# Altium integrated library Capacitor - Aluminium TH.IntLib: 4591 symbols (part 57 of 68)
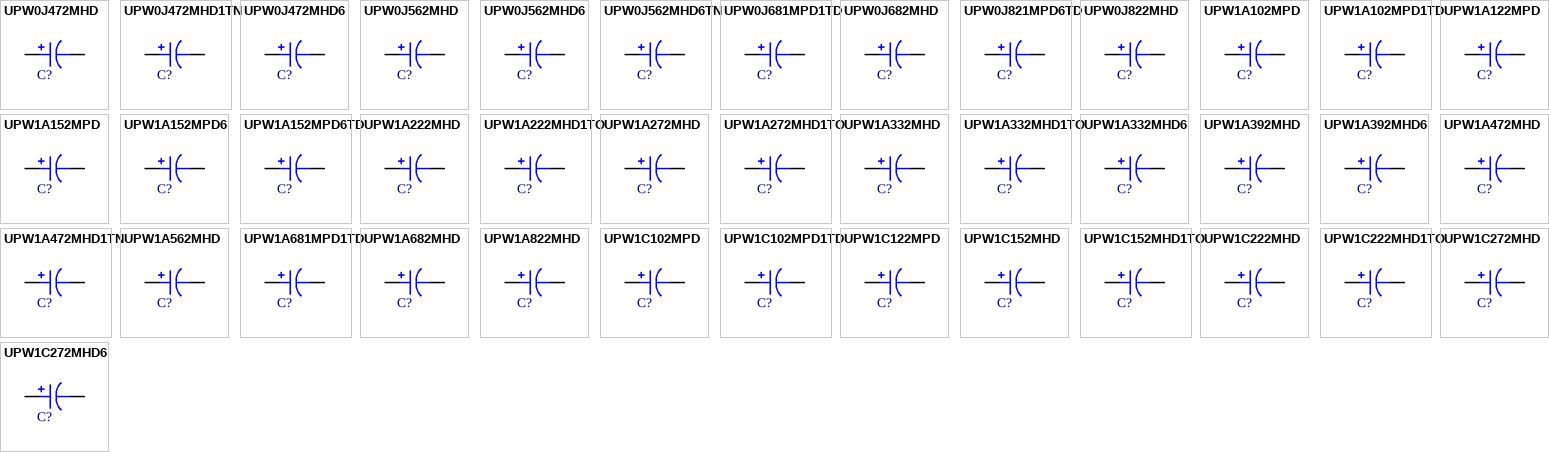
[diagram p170: symbols UPW0J472MHD to UPW1C272MHD6]

## UPW1A272MHD
designator C?, comment 2700uF  (value not drawn)
CAP ALUM 2700UF 20% 10V RADIAL; Part Number: UPW1A272MHD; Manufacturer: Nichicon; TemperatureRange: -55C ~ 105C; Type: Polar; Ripple Current: 1.653A @ 120Hz; Impedance: 30 mOhm; Value: 2700uF; PartId: 23565; Supplier 1: Digi-Key; Supplier Part Number 1: 493-1753-ND; ComponentLink1Description: Datasheet; ComponentLink1URL: http://nichicon-us.com/english/products/pdfs/e-upw.pdf; ComponentLink2Description: Digi-Key Listing; ComponentLink2URL: https://www.digikey.com/product-detail/en/nichicon/UPW1A272MHD/493-1753-ND/589494; Tolerance: 20%; Voltage: 10V; Price: 0.92; Device Package: Radial, Can, 12.5mm
footprint CAP AL TH D12.5 L5 H25
pins: 1, 2

## UPW1A272MHD1TO
designator C?, comment 2700uF  (value not drawn)
CAP ALUM 2700UF 20% 10V RADIAL; Part Number: UPW1A272MHD1TO; Manufacturer: Nichicon; TemperatureRange: -55C ~ 105C; Type: Polar; Ripple Current: 1.653A @ 120Hz; Impedance: 30 mOhm; Value: 2700uF; PartId: 23982; Supplier 1: Digi-Key; Supplier Part Number 1: 493-12127-1-ND; ComponentLink1Description: Datasheet; ComponentLink1URL: http://nichicon-us.com/english/products/pdfs/e-upw.pdf; ComponentLink2Description: Digi-Key Listing; ComponentLink2URL: https://www.digikey.com/product-detail/en/nichicon/UPW1A272MHD1TO/493-12127-1-ND/4319896; Tolerance: 20%; Voltage: 10V; Price: 1.03; Device Package: Radial, Can, 12.5mm
footprint CAP AL TH D12.5 L5 H27
pins: 1, 2

## UPW1A332MHD
designator C?, comment 3300uF  (value not drawn)
CAP ALUM 3300UF 20% 10V RADIAL; Part Number: UPW1A332MHD; Manufacturer: Nichicon; TemperatureRange: -55C ~ 105C; Type: Polar; Ripple Current: 1.658A @ 120Hz; Impedance: 30 mOhm; Value: 3300uF; PartId: 23578; Supplier 1: Digi-Key; Supplier Part Number 1: 493-1754-ND; ComponentLink1Description: Datasheet; ComponentLink1URL: http://nichicon-us.com/english/products/pdfs/e-upw.pdf; ComponentLink2Description: Digi-Key Listing; ComponentLink2URL: https://www.digikey.com/product-detail/en/nichicon/UPW1A332MHD/493-1754-ND/589495; Tolerance: 20%; Voltage: 10V; Price: 0.98; Device Package: Radial, Can, 12.5mm
footprint CAP AL TH D12.5 L5 H25
pins: 1, 2

## UPW1A332MHD1TO
designator C?, comment 3300uF  (value not drawn)
CAP ALUM 3300UF 20% 10V RADIAL; Part Number: UPW1A332MHD1TO; Manufacturer: Nichicon; TemperatureRange: -55C ~ 105C; Type: Polar; Ripple Current: 1.658A @ 120Hz; Impedance: 30 mOhm; Value: 3300uF; PartId: 23961; Supplier 1: Digi-Key; Supplier Part Number 1: 493-12153-1-ND; ComponentLink1Description: Datasheet; ComponentLink1URL: http://nichicon-us.com/english/products/pdfs/e-upw.pdf; ComponentLink2Description: Digi-Key Listing; ComponentLink2URL: https://www.digikey.com/product-detail/en/nichicon/UPW1A332MHD1TO/493-12153-1-ND/4319899; Tolerance: 20%; Voltage: 10V; Price: 0.98; Device Package: Radial, Can, 12.5mm
footprint CAP AL TH D12.5 L5 H27
pins: 1, 2

## UPW1A332MHD6
designator C?, comment 3300uF  (value not drawn)
CAP ALUM 3300UF 20% 10V RADIAL; Part Number: UPW1A332MHD6; Manufacturer: Nichicon; TemperatureRange: -55C ~ 105C; Type: Polar; Ripple Current: 1.964A @ 120Hz; Impedance: 25 mOhm; Value: 3300uF; PartId: 24266; Supplier 1: Digi-Key; Supplier Part Number 1: 493-1755-ND; ComponentLink1Description: Datasheet; ComponentLink1URL: http://nichicon-us.com/english/products/pdfs/e-upw.pdf; ComponentLink2Description: Digi-Key Listing; ComponentLink2URL: https://www.digikey.com/product-detail/en/nichicon/UPW1A332MHD6/493-1755-ND/589496; Tolerance: 20%; Voltage: 10V; Price: 1.05; Device Package: Radial, Can, 12.5mm
footprint CAP AL TH D12.5 L5 H35.5
pins: 1, 2

## UPW1A392MHD
designator C?, comment 3900uF  (value not drawn)
CAP ALUM 3900UF 20% 10V RADIAL; Part Number: UPW1A392MHD; Manufacturer: Nichicon; TemperatureRange: -55C ~ 105C; Type: Polar; Ripple Current: 2.134A @ 120Hz; Impedance: 22 mOhm; Value: 3900uF; PartId: 24302; Supplier 1: Digi-Key; Supplier Part Number 1: 493-1756-ND; ComponentLink1Description: Datasheet; ComponentLink1URL: http://nichicon-us.com/english/products/pdfs/e-upw.pdf; ComponentLink2Description: Digi-Key Listing; ComponentLink2URL: https://www.digikey.com/product-detail/en/nichicon/UPW1A392MHD/493-1756-ND/589497; Tolerance: 20%; Voltage: 10V; Price: 1.2; Device Package: Radial, Can, 12.5mm
footprint CAP AL TH D12.5 L5 H35.5
pins: 1, 2

## UPW1A392MHD6
designator C?, comment 3900uF  (value not drawn)
CAP ALUM 3900UF 20% 10V RADIAL; Part Number: UPW1A392MHD6; Manufacturer: Nichicon; TemperatureRange: -55C ~ 105C; Type: Polar; Ripple Current: 1.879A @ 120Hz; Impedance: 29 mOhm; Value: 3900uF; PartId: 26320; Supplier 1: Digi-Key; Supplier Part Number 1: 493-1757-ND; ComponentLink1Description: Datasheet; ComponentLink1URL: http://nichicon-us.com/english/products/pdfs/e-upw.pdf; ComponentLink2Description: Digi-Key Listing; ComponentLink2URL: https://www.digikey.com/product-detail/en/nichicon/UPW1A392MHD6/493-1757-ND/589498; Tolerance: 20%; Voltage: 10V; Price: 1.28; Device Package: Radial, Can, 16mm
footprint CAP AL TH D16 L7.5 H20
pins: 1, 2

## UPW1A472MHD
designator C?, comment 4700uF  (value not drawn)
CAP ALUM 4700UF 20% 10V RADIAL; Part Number: UPW1A472MHD; Manufacturer: Nichicon; TemperatureRange: -55C ~ 105C; Type: Polar; Ripple Current: 2.172A @ 120Hz; Impedance: 22 mOhm; Value: 4700uF; PartId: 26594; Supplier 1: Digi-Key; Supplier Part Number 1: 493-1758-ND; ComponentLink1Description: Datasheet; ComponentLink1URL: http://nichicon-us.com/english/products/pdfs/e-upw.pdf; ComponentLink2Description: Digi-Key Listing; ComponentLink2URL: https://www.digikey.com/product-detail/en/nichicon/UPW1A472MHD/493-1758-ND/589499; Tolerance: 20%; Voltage: 10V; Price: 1.29; Device Package: Radial, Can, 16mm
footprint CAP AL TH D16 L7.5 H26.5
pins: 1, 2

## UPW1A472MHD1TN
designator C?, comment 4700uF  (value not drawn)
CAP ALUM 4700UF 20% 10V RADIAL; Part Number: UPW1A472MHD1TN; Manufacturer: Nichicon; TemperatureRange: -55C ~ 105C; Type: Polar; Ripple Current: 2.172A @ 120Hz; Impedance: 22 mOhm; Value: 4700uF; PartId: 26793; Supplier 1: Digi-Key; Supplier Part Number 1: 493-12295-3-ND; ComponentLink1Description: Datasheet; ComponentLink1URL: http://nichicon-us.com/english/products/pdfs/e-upw.pdf; ComponentLink2Description: Digi-Key Listing; ComponentLink2URL: https://www.digikey.com/product-detail/en/nichicon/UPW1A472MHD1TN/493-12295-3-ND/4321438; Tolerance: 20%; Voltage: 10V; Price: 0.6804; Device Package: Radial, Can, 16mm
footprint CAP AL TH D16 L7.5 H27
pins: 1, 2

## UPW1A562MHD
designator C?, comment 5600uF  (value not drawn)
CAP ALUM 5600UF 20% 10V RADIAL; Part Number: UPW1A562MHD; Manufacturer: Nichicon; TemperatureRange: -55C ~ 105C; Type: Polar; Ripple Current: 2.176A @ 120Hz; Impedance: 22 mOhm; Value: 5600uF; PartId: 26636; Supplier 1: Digi-Key; Supplier Part Number 1: 493-1759-ND; ComponentLink1Description: Datasheet; ComponentLink1URL: http://nichicon-us.com/english/products/pdfs/e-upw.pdf; ComponentLink2Description: Digi-Key Listing; ComponentLink2URL: https://www.digikey.com/product-detail/en/nichicon/UPW1A562MHD/493-1759-ND/589500; Tolerance: 20%; Voltage: 10V; Price: 1.48; Device Package: Radial, Can, 16mm
footprint CAP AL TH D16 L7.5 H26.5
pins: 1, 2

## UPW1A681MPD1TD
designator C?, comment 680uF  (value not drawn)
CAP ALUM 680UF 20% 10V RADIAL; Part Number: UPW1A681MPD1TD; Manufacturer: Nichicon; TemperatureRange: -55C ~ 105C; Type: Polar; Ripple Current: 570mA @ 120Hz; Impedance: 90 mOhm; Value: 680uF; PartId: 24972; Supplier 1: Digi-Key; Supplier Part Number 1: 493-11838-1-ND; ComponentLink1Description: Datasheet; ComponentLink1URL: http://nichicon-us.com/english/products/pdfs/e-upw.pdf; ComponentLink2Description: Digi-Key Listing; ComponentLink2URL: https://www.digikey.com/product-detail/en/nichicon/UPW1A681MPD1TD/493-11838-1-ND/4319908; Tolerance: 20%; Voltage: 10V; Price: 0.53; Device Package: Radial, Can, 10mm
footprint CAP AL TH D10 L5 H14.5
pins: 1, 2

## UPW1A682MHD
designator C?, comment 6800uF  (value not drawn)
CAP ALUM 6800UF 20% 10V RADIAL; Part Number: UPW1A682MHD; Manufacturer: Nichicon; TemperatureRange: -55C ~ 105C; Type: Polar; Ripple Current: 2.559A @ 120Hz; Impedance: 18 mOhm; Value: 6800uF; PartId: 27142; Supplier 1: Digi-Key; Supplier Part Number 1: 493-1761-ND; ComponentLink1Description: Datasheet; ComponentLink1URL: http://nichicon-us.com/english/products/pdfs/e-upw.pdf; ComponentLink2Description: Digi-Key Listing; ComponentLink2URL: https://www.digikey.com/product-detail/en/nichicon/UPW1A682MHD/493-1761-ND/589502; Tolerance: 20%; Voltage: 10V; Price: 1.81; Device Package: Radial, Can, 16mm
footprint CAP AL TH D16 L7.5 H33.5
pins: 1, 2

## UPW1A822MHD
designator C?, comment 8200uF  (value not drawn)
CAP ALUM 8200UF 20% 10V RADIAL; Part Number: UPW1A822MHD; Manufacturer: Nichicon; TemperatureRange: -55C ~ 105C; Type: Polar; Ripple Current: 2.678A @ 120Hz; Impedance: 16 mOhm; Value: 8200uF; PartId: 27369; Supplier 1: Digi-Key; Supplier Part Number 1: 493-1763-ND; ComponentLink1Description: Datasheet; ComponentLink1URL: http://nichicon-us.com/english/products/pdfs/e-upw.pdf; ComponentLink2Description: Digi-Key Listing; ComponentLink2URL: https://www.digikey.com/product-detail/en/nichicon/UPW1A822MHD/493-1763-ND/589504; Tolerance: 20%; Voltage: 10V; Price: 1.79; Device Package: Radial, Can, 16mm
footprint CAP AL TH D16 L7.5 H37
pins: 1, 2

## UPW1C102MPD
designator C?, comment 1000uF  (value not drawn)
CAP ALUM 1000UF 20% 16V RADIAL; Part Number: UPW1C102MPD; Manufacturer: Nichicon; TemperatureRange: -55C ~ 105C; Type: Polar; Ripple Current: 915mA @ 120Hz; Impedance: 52 mOhm; Value: 1000uF; PartId: 25510; Supplier 1: Digi-Key; Supplier Part Number 1: 493-1790-ND; ComponentLink1Description: Datasheet; ComponentLink1URL: http://nichicon-us.com/english/products/pdfs/e-upw.pdf; ComponentLink2Description: Digi-Key Listing; ComponentLink2URL: https://www.digikey.com/product-detail/en/nichicon/UPW1C102MPD/493-1790-ND/589531; Tolerance: 20%; Voltage: 16V; Price: 0.54; Device Package: Radial, Can, 10mm
footprint CAP AL TH D10 L5 H22
pins: 1, 2

## UPW1C102MPD1TD
designator C?, comment 1000uF  (value not drawn)
CAP ALUM 1000UF 20% 16V RADIAL; Part Number: UPW1C102MPD1TD; Manufacturer: Nichicon; TemperatureRange: -55C ~ 105C; Type: Polar; Ripple Current: 915mA @ 120Hz; Impedance: 52 mOhm; Value: 1000uF; PartId: 25737; Supplier 1: Digi-Key; Supplier Part Number 1: 493-11891-3-ND; ComponentLink1Description: Datasheet; ComponentLink1URL: http://nichicon-us.com/english/products/pdfs/e-upw.pdf; ComponentLink2Description: Digi-Key Listing; ComponentLink2URL: https://www.digikey.com/product-detail/en/nichicon/UPW1C102MPD1TD/493-11891-3-ND/4321034; Tolerance: 20%; Voltage: 16V; Price: 0.1872; Device Package: Radial, Can, 10mm
footprint CAP AL TH D10 L5 H22
pins: 1, 2

## UPW1C122MPD
designator C?, comment 1200uF  (value not drawn)
CAP ALUM 1200UF 20% 16V RADIAL; Part Number: UPW1C122MPD; Manufacturer: Nichicon; TemperatureRange: -55C ~ 105C; Type: Polar; Ripple Current: 1.224A @ 120Hz; Impedance: 45 mOhm; Value: 1200uF; PartId: 26123; Supplier 1: Digi-Key; Supplier Part Number 1: 493-1791-ND; ComponentLink1Description: Datasheet; ComponentLink1URL: http://nichicon-us.com/english/products/pdfs/e-upw.pdf; ComponentLink2Description: Digi-Key Listing; ComponentLink2URL: https://www.digikey.com/product-detail/en/nichicon/UPW1C122MPD/493-1791-ND/589532; Tolerance: 20%; Voltage: 16V; Price: 0.78; Device Package: Radial, Can, 10mm
footprint CAP AL TH D10 L5 H30
pins: 1, 2

## UPW1C152MHD
designator C?, comment 1500uF  (value not drawn)
CAP ALUM 1500UF 20% 16V RADIAL; Part Number: UPW1C152MHD; Manufacturer: Nichicon; TemperatureRange: -55C ~ 105C; Type: Polar; Ripple Current: 1.407A @ 120Hz; Impedance: 38 mOhm; Value: 1500uF; PartId: 22874; Supplier 1: Digi-Key; Supplier Part Number 1: 493-1792-ND; ComponentLink1Description: Datasheet; ComponentLink1URL: http://nichicon-us.com/english/products/pdfs/e-upw.pdf; ComponentLink2Description: Digi-Key Listing; ComponentLink2URL: https://www.digikey.com/product-detail/en/nichicon/UPW1C152MHD/493-1792-ND/589533; Tolerance: 20%; Voltage: 16V; Price: 0; Device Package: Radial, Can, 12.5mm
footprint CAP AL TH D12.5 L5 H20
pins: 1, 2

## UPW1C152MHD1TO
designator C?, comment 1500uF  (value not drawn)
CAP ALUM 1500UF 20% 16V RADIAL; Part Number: UPW1C152MHD1TO; Manufacturer: Nichicon; TemperatureRange: -55C ~ 105C; Type: Polar; Ripple Current: 1.407A @ 120Hz; Impedance: 38 mOhm; Value: 1500uF; PartId: 23341; Supplier 1: Digi-Key; Supplier Part Number 1: 493-12031-1-ND; ComponentLink1Description: Datasheet; ComponentLink1URL: http://nichicon-us.com/english/products/pdfs/e-upw.pdf; ComponentLink2Description: Digi-Key Listing; ComponentLink2URL: https://www.digikey.com/product-detail/en/nichicon/UPW1C152MHD1TO/493-12031-1-ND/4319919; Tolerance: 20%; Voltage: 16V; Price: 0.84; Device Package: Radial, Can, 12.5mm
footprint CAP AL TH D12.5 L5 H22
pins: 1, 2

## UPW1C222MHD
designator C?, comment 2200uF  (value not drawn)
CAP ALUM 2200UF 20% 16V RADIAL; Part Number: UPW1C222MHD; Manufacturer: Nichicon; TemperatureRange: -55C ~ 105C; Type: Polar; Ripple Current: 1.653A @ 120Hz; Impedance: 30 mOhm; Value: 2200uF; PartId: 23555; Supplier 1: Digi-Key; Supplier Part Number 1: 493-1794-ND; ComponentLink1Description: Datasheet; ComponentLink1URL: http://nichicon-us.com/english/products/pdfs/e-upw.pdf; ComponentLink2Description: Digi-Key Listing; ComponentLink2URL: https://www.digikey.com/product-detail/en/nichicon/UPW1C222MHD/493-1794-ND/589535; Tolerance: 20%; Voltage: 16V; Price: 0.86; Device Package: Radial, Can, 12.5mm
footprint CAP AL TH D12.5 L5 H25
pins: 1, 2

## UPW1C222MHD1TO
designator C?, comment 2200uF  (value not drawn)
CAP ALUM 2200UF 20% 16V RADIAL; Part Number: UPW1C222MHD1TO; Manufacturer: Nichicon; TemperatureRange: -55C ~ 105C; Type: Polar; Ripple Current: 1.653A @ 120Hz; Impedance: 30 mOhm; Value: 2200uF; PartId: 23803; Supplier 1: Digi-Key; Supplier Part Number 1: 493-12100-3-ND; ComponentLink1Description: Datasheet; ComponentLink1URL: http://nichicon-us.com/english/products/pdfs/e-upw.pdf; ComponentLink2Description: Digi-Key Listing; ComponentLink2URL: https://www.digikey.com/product-detail/en/nichicon/UPW1C222MHD1TO/493-12100-3-ND/4321243; Tolerance: 20%; Voltage: 16V; Price: 0.3619; Device Package: Radial, Can, 12.5mm
footprint CAP AL TH D12.5 L5 H27
pins: 1, 2

## UPW1C272MHD
designator C?, comment 2700uF  (value not drawn)
CAP ALUM 2700UF 20% 16V RADIAL; Part Number: UPW1C272MHD; Manufacturer: Nichicon; TemperatureRange: -55C ~ 105C; Type: Polar; Ripple Current: 1.964A @ 120Hz; Impedance: 25 mOhm; Value: 2700uF; PartId: 24272; Supplier 1: Digi-Key; Supplier Part Number 1: 493-1795-ND; ComponentLink1Description: Datasheet; ComponentLink1URL: http://nichicon-us.com/english/products/pdfs/e-upw.pdf; ComponentLink2Description: Digi-Key Listing; ComponentLink2URL: https://www.digikey.com/product-detail/en/nichicon/UPW1C272MHD/493-1795-ND/589536; Tolerance: 20%; Voltage: 16V; Price: 1.06; Device Package: Radial, Can, 12.5mm
footprint CAP AL TH D12.5 L5 H35.5
pins: 1, 2

## UPW1C272MHD6
designator C?, comment 2700uF  (value not drawn)
CAP ALUM 2700UF 20% 16V RADIAL; Part Number: UPW1C272MHD6; Manufacturer: Nichicon; TemperatureRange: -55C ~ 105C; Type: Polar; Ripple Current: 1.87A @ 120Hz; Impedance: 29 mOhm; Value: 2700uF; PartId: 26287; Supplier 1: Digi-Key; Supplier Part Number 1: 493-1796-ND; ComponentLink1Description: Datasheet; ComponentLink1URL: http://nichicon-us.com/english/products/pdfs/e-upw.pdf; ComponentLink2Description: Digi-Key Listing; ComponentLink2URL: https://www.digikey.com/product-detail/en/nichicon/UPW1C272MHD6/493-1796-ND/589537; Tolerance: 20%; Voltage: 16V; Price: 1.03; Device Package: Radial, Can, 16mm
footprint CAP AL TH D16 L7.5 H20
pins: 1, 2

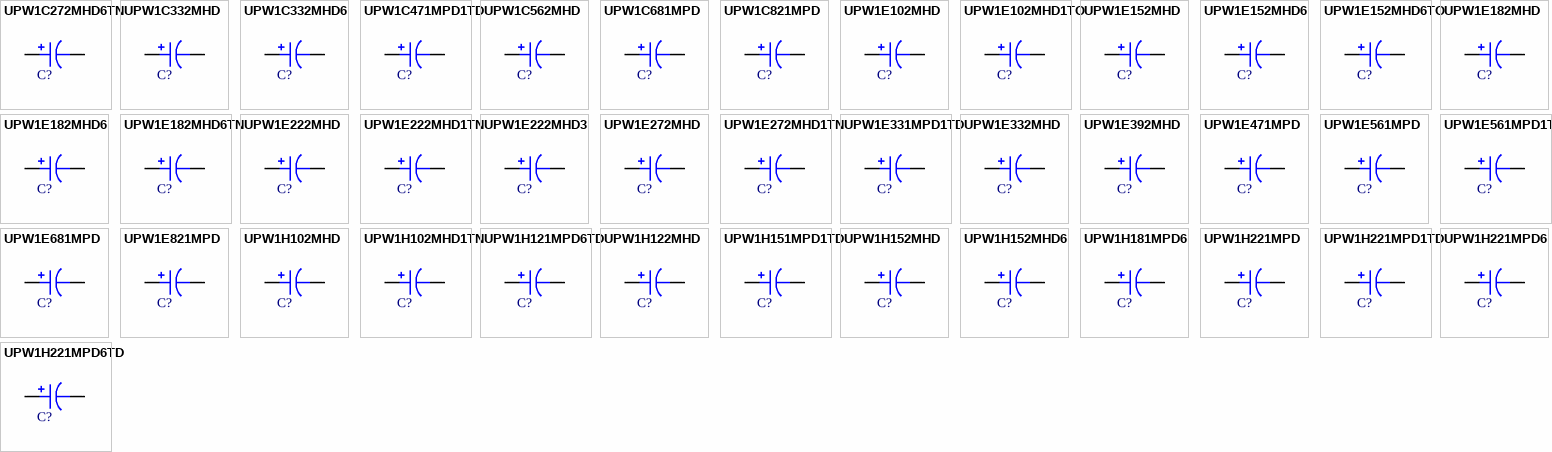
[diagram p95: symbols UPW1C272MHD6TN to UPW1H221MPD6TD]

## UPW1C272MHD6TN
designator C?, comment 2700uF  (value not drawn)
CAP ALUM 2700UF 20% 16V RADIAL; Part Number: UPW1C272MHD6TN; Manufacturer: Nichicon; TemperatureRange: -55C ~ 105C; Type: Polar; Ripple Current: 1.87A @ 120Hz; Impedance: 29 mOhm; Value: 2700uF; PartId: 26362; Supplier 1: Digi-Key; Supplier Part Number 1: 493-12207-3-ND; ComponentLink1Description: Datasheet; ComponentLink1URL: http://nichicon-us.com/english/products/pdfs/e-upw.pdf; ComponentLink2Description: Digi-Key Listing; ComponentLink2URL: https://www.digikey.com/product-detail/en/nichicon/UPW1C272MHD6TN/493-12207-3-ND/4321350; Tolerance: 20%; Voltage: 16V; Price: 0.5396; Device Package: Radial, Can, 16mm
footprint CAP AL TH D16 L7.5 H22
pins: 1, 2

## UPW1C332MHD
designator C?, comment 3300uF  (value not drawn)
CAP ALUM 3300UF 20% 16V RADIAL; Part Number: UPW1C332MHD; Manufacturer: Nichicon; TemperatureRange: -55C ~ 105C; Type: Polar; Ripple Current: 2.172A @ 120Hz; Impedance: 22 mOhm; Value: 3300uF; PartId: 26579; Supplier 1: Digi-Key; Supplier Part Number 1: 493-1797-ND; ComponentLink1Description: Datasheet; ComponentLink1URL: http://nichicon-us.com/english/products/pdfs/e-upw.pdf; ComponentLink2Description: Digi-Key Listing; ComponentLink2URL: https://www.digikey.com/product-detail/en/nichicon/UPW1C332MHD/493-1797-ND/589538; Tolerance: 20%; Voltage: 16V; Price: 1.22; Device Package: Radial, Can, 16mm
footprint CAP AL TH D16 L7.5 H26.5
pins: 1, 2

## UPW1C332MHD6
designator C?, comment 3300uF  (value not drawn)
CAP ALUM 3300UF 20% 16V RADIAL; Part Number: UPW1C332MHD6; Manufacturer: Nichicon; TemperatureRange: -55C ~ 105C; Type: Polar; Ripple Current: 2.134A @ 120Hz; Impedance: 22 mOhm; Value: 3300uF; PartId: 24332; Supplier 1: Digi-Key; Supplier Part Number 1: 493-1798-ND; ComponentLink1Description: Datasheet; ComponentLink1URL: http://nichicon-us.com/english/products/pdfs/e-upw.pdf; ComponentLink2Description: Digi-Key Listing; ComponentLink2URL: https://www.digikey.com/product-detail/en/nichicon/UPW1C332MHD6/493-1798-ND/589539; Tolerance: 20%; Voltage: 16V; Price: 1.3; Device Package: Radial, Can, 12.5mm
footprint CAP AL TH D12.5 L5 H35.5
pins: 1, 2

## UPW1C471MPD1TD
designator C?, comment 470uF  (value not drawn)
CAP ALUM 470UF 20% 16V RADIAL; Part Number: UPW1C471MPD1TD; Manufacturer: Nichicon; TemperatureRange: -55C ~ 105C; Type: Polar; Ripple Current: 570mA @ 120Hz; Impedance: 90 mOhm; Value: 470uF; PartId: 24529; Supplier 1: Digi-Key; Supplier Part Number 1: 493-11717-3-ND; ComponentLink1Description: Datasheet; ComponentLink1URL: http://nichicon-us.com/english/products/pdfs/e-upw.pdf; ComponentLink2Description: Digi-Key Listing; ComponentLink2URL: https://www.digikey.com/product-detail/en/nichicon/UPW1C471MPD1TD/493-11717-3-ND/4320860; Tolerance: 20%; Voltage: 16V; Price: 0.1435; Device Package: Radial, Can, 10mm
footprint CAP AL TH D10 L5 H14.5
pins: 1, 2

## UPW1C562MHD
designator C?, comment 5600uF  (value not drawn)
CAP ALUM 5600UF 20% 16V RADIAL; Part Number: UPW1C562MHD; Manufacturer: Nichicon; TemperatureRange: -55C ~ 105C; Type: Polar; Ripple Current: 2.678A @ 120Hz; Impedance: 16 mOhm; Value: 5600uF; PartId: 27374; Supplier 1: Digi-Key; Supplier Part Number 1: 493-1803-ND; ComponentLink1Description: Datasheet; ComponentLink1URL: http://nichicon-us.com/english/products/pdfs/e-upw.pdf; ComponentLink2Description: Digi-Key Listing; ComponentLink2URL: https://www.digikey.com/product-detail/en/nichicon/UPW1C562MHD/493-1803-ND/589544; Tolerance: 20%; Voltage: 16V; Price: 1.81; Device Package: Radial, Can, 16mm
footprint CAP AL TH D16 L7.5 H37
pins: 1, 2

## UPW1C681MPD
designator C?, comment 680uF  (value not drawn)
CAP ALUM 680UF 20% 16V RADIAL; Part Number: UPW1C681MPD; Manufacturer: Nichicon; TemperatureRange: -55C ~ 105C; Type: Polar; Ripple Current: 788mA @ 120Hz; Impedance: 68 mOhm; Value: 680uF; PartId: 25236; Supplier 1: Digi-Key; Supplier Part Number 1: 493-1787-ND; ComponentLink1Description: Datasheet; ComponentLink1URL: http://nichicon-us.com/english/products/pdfs/e-upw.pdf; ComponentLink2Description: Digi-Key Listing; ComponentLink2URL: https://www.digikey.com/product-detail/en/nichicon/UPW1C681MPD/493-1787-ND/589528; Tolerance: 20%; Voltage: 16V; Price: 0.56; Device Package: Radial, Can, 10mm
footprint CAP AL TH D10 L5 H17.5
pins: 1, 2

## UPW1C821MPD
designator C?, comment 820uF  (value not drawn)
CAP ALUM 820UF 20% 16V RADIAL; Part Number: UPW1C821MPD; Manufacturer: Nichicon; TemperatureRange: -55C ~ 105C; Type: Polar; Ripple Current: 915mA @ 120Hz; Impedance: 52 mOhm; Value: 820uF; PartId: 25526; Supplier 1: Digi-Key; Supplier Part Number 1: 493-1789-ND; ComponentLink1Description: Datasheet; ComponentLink1URL: http://nichicon-us.com/english/products/pdfs/e-upw.pdf; ComponentLink2Description: Digi-Key Listing; ComponentLink2URL: https://www.digikey.com/product-detail/en/nichicon/UPW1C821MPD/493-1789-ND/589530; Tolerance: 20%; Voltage: 16V; Price: 0.6; Device Package: Radial, Can, 10mm
footprint CAP AL TH D10 L5 H22
pins: 1, 2

## UPW1E102MHD
designator C?, comment 1000uF  (value not drawn)
CAP ALUM 1000UF 20% 25V RADIAL; Part Number: UPW1E102MHD; Manufacturer: Nichicon; TemperatureRange: -55C ~ 105C; Type: Polar; Ripple Current: 1.245A @ 120Hz; Impedance: 38 mOhm; Value: 1000uF; PartId: 22847; Supplier 1: Digi-Key; Supplier Part Number 1: 493-1831-ND; ComponentLink1Description: Datasheet; ComponentLink1URL: http://nichicon-us.com/english/products/pdfs/e-upw.pdf; ComponentLink2Description: Digi-Key Listing; ComponentLink2URL: https://www.digikey.com/product-detail/en/nichicon/UPW1E102MHD/493-1831-ND/589572; Tolerance: 20%; Voltage: 25V; Price: 0; Device Package: Radial, Can, 12.5mm
footprint CAP AL TH D12.5 L5 H20
pins: 1, 2

## UPW1E102MHD1TO
designator C?, comment 1000uF  (value not drawn)
CAP ALUM 1000UF 20% 25V RADIAL; Part Number: UPW1E102MHD1TO; Manufacturer: Nichicon; TemperatureRange: -55C ~ 105C; Type: Polar; Ripple Current: 1.245A @ 120Hz; Impedance: 38 mOhm; Value: 1000uF; PartId: 23133; Supplier 1: Digi-Key; Supplier Part Number 1: 493-11981-3-ND; ComponentLink1Description: Datasheet; ComponentLink1URL: http://nichicon-us.com/english/products/pdfs/e-upw.pdf; ComponentLink2Description: Digi-Key Listing; ComponentLink2URL: https://www.digikey.com/product-detail/en/nichicon/UPW1E102MHD1TO/493-11981-3-ND/4321124; Tolerance: 20%; Voltage: 25V; Price: 0.2489; Device Package: Radial, Can, 12.5mm
footprint CAP AL TH D12.5 L5 H22
pins: 1, 2

## UPW1E152MHD
designator C?, comment 1500uF  (value not drawn)
CAP ALUM 1500UF 20% 25V RADIAL; Part Number: UPW1E152MHD; Manufacturer: Nichicon; TemperatureRange: -55C ~ 105C; Type: Polar; Ripple Current: 2.172A @ 120Hz; Impedance: 22 mOhm; Value: 1500uF; PartId: 26530; Supplier 1: Digi-Key; Supplier Part Number 1: 493-1833-ND; ComponentLink1Description: Datasheet; ComponentLink1URL: http://nichicon-us.com/english/products/pdfs/e-upw.pdf; ComponentLink2Description: Digi-Key Listing; ComponentLink2URL: https://www.digikey.com/product-detail/en/nichicon/UPW1E152MHD/493-1833-ND/589574; Tolerance: 20%; Voltage: 25V; Price: 0.93; Device Package: Radial, Can, 16mm
footprint CAP AL TH D16 L7.5 H26.5
pins: 1, 2

## UPW1E152MHD6
designator C?, comment 1500uF  (value not drawn)
CAP ALUM 1500UF 20% 25V RADIAL; Part Number: UPW1E152MHD6; Manufacturer: Nichicon; TemperatureRange: -55C ~ 105C; Type: Polar; Ripple Current: 1.658A @ 120Hz; Impedance: 30 mOhm; Value: 1500uF; PartId: 23573; Supplier 1: Digi-Key; Supplier Part Number 1: 493-1834-ND; ComponentLink1Description: Datasheet; ComponentLink1URL: http://nichicon-us.com/english/products/pdfs/e-upw.pdf; ComponentLink2Description: Digi-Key Listing; ComponentLink2URL: https://www.digikey.com/product-detail/en/nichicon/UPW1E152MHD6/493-1834-ND/589575; Tolerance: 20%; Voltage: 25V; Price: 0.96; Device Package: Radial, Can, 12.5mm
footprint CAP AL TH D12.5 L5 H25
pins: 1, 2

## UPW1E152MHD6TO
designator C?, comment 1500uF  (value not drawn)
CAP ALUM 1500UF 20% 25V RADIAL; Part Number: UPW1E152MHD6TO; Manufacturer: Nichicon; TemperatureRange: -55C ~ 105C; Type: Polar; Ripple Current: 1.658A @ 120Hz; Impedance: 30 mOhm; Value: 1500uF; PartId: 23930; Supplier 1: Digi-Key; Supplier Part Number 1: 493-12148-1-ND; ComponentLink1Description: Datasheet; ComponentLink1URL: http://nichicon-us.com/english/products/pdfs/e-upw.pdf; ComponentLink2Description: Digi-Key Listing; ComponentLink2URL: https://www.digikey.com/product-detail/en/nichicon/UPW1E152MHD6TO/493-12148-1-ND/4319951; Tolerance: 20%; Voltage: 25V; Price: 0.96; Device Package: Radial, Can, 12.5mm
footprint CAP AL TH D12.5 L5 H27
pins: 1, 2

## UPW1E182MHD
designator C?, comment 1800uF  (value not drawn)
CAP ALUM 1800UF 20% 25V RADIAL; Part Number: UPW1E182MHD; Manufacturer: Nichicon; TemperatureRange: -55C ~ 105C; Type: Polar; Ripple Current: 1.964A @ 120Hz; Impedance: 25 mOhm; Value: 1800uF; PartId: 24225; Supplier 1: Digi-Key; Supplier Part Number 1: 493-1835-ND; ComponentLink1Description: Datasheet; ComponentLink1URL: http://nichicon-us.com/english/products/pdfs/e-upw.pdf; ComponentLink2Description: Digi-Key Listing; ComponentLink2URL: https://www.digikey.com/product-detail/en/nichicon/UPW1E182MHD/493-1835-ND/589576; Tolerance: 20%; Voltage: 25V; Price: 0.97; Device Package: Radial, Can, 12.5mm
footprint CAP AL TH D12.5 L5 H35.5
pins: 1, 2

## UPW1E182MHD6
designator C?, comment 1800uF  (value not drawn)
CAP ALUM 1800UF 20% 25V RADIAL; Part Number: UPW1E182MHD6; Manufacturer: Nichicon; TemperatureRange: -55C ~ 105C; Type: Polar; Ripple Current: 1.879A @ 120Hz; Impedance: 29 mOhm; Value: 1800uF; PartId: 26291; Supplier 1: Digi-Key; Supplier Part Number 1: 493-1836-ND; ComponentLink1Description: Datasheet; ComponentLink1URL: http://nichicon-us.com/english/products/pdfs/e-upw.pdf; ComponentLink2Description: Digi-Key Listing; ComponentLink2URL: https://www.digikey.com/product-detail/en/nichicon/UPW1E182MHD6/493-1836-ND/589577; Tolerance: 20%; Voltage: 25V; Price: 1.07; Device Package: Radial, Can, 16mm
footprint CAP AL TH D16 L7.5 H20
pins: 1, 2

## UPW1E182MHD6TN
designator C?, comment 1800uF  (value not drawn)
CAP ALUM 1800UF 20% 25V RADIAL; Part Number: UPW1E182MHD6TN; Manufacturer: Nichicon; TemperatureRange: -55C ~ 105C; Type: Polar; Ripple Current: 1.879A @ 120Hz; Impedance: 29 mOhm; Value: 1800uF; PartId: 26365; Supplier 1: Digi-Key; Supplier Part Number 1: 493-12238-3-ND; ComponentLink1Description: Datasheet; ComponentLink1URL: http://nichicon-us.com/english/products/pdfs/e-upw.pdf; ComponentLink2Description: Digi-Key Listing; ComponentLink2URL: https://www.digikey.com/product-detail/en/nichicon/UPW1E182MHD6TN/493-12238-3-ND/4321381; Tolerance: 20%; Voltage: 25V; Price: 0.5624; Device Package: Radial, Can, 16mm
footprint CAP AL TH D16 L7.5 H22
pins: 1, 2

## UPW1E222MHD
designator C?, comment 2200uF  (value not drawn)
CAP ALUM 2200UF 20% 25V RADIAL; Part Number: UPW1E222MHD; Manufacturer: Nichicon; TemperatureRange: -55C ~ 105C; Type: Polar; Ripple Current: 2.172A @ 120Hz; Impedance: 22 mOhm; Value: 2200uF; PartId: 26570; Supplier 1: Digi-Key; Supplier Part Number 1: 493-1837-ND; ComponentLink1Description: Datasheet; ComponentLink1URL: http://nichicon-us.com/english/products/pdfs/e-upw.pdf; ComponentLink2Description: Digi-Key Listing; ComponentLink2URL: https://www.digikey.com/product-detail/en/nichicon/UPW1E222MHD/493-1837-ND/589578; Tolerance: 20%; Voltage: 25V; Price: 1.17; Device Package: Radial, Can, 16mm
footprint CAP AL TH D16 L7.5 H26.5
pins: 1, 2

## UPW1E222MHD1TN
designator C?, comment 2200uF  (value not drawn)
CAP ALUM 2200UF 20% 25V RADIAL; Part Number: UPW1E222MHD1TN; Manufacturer: Nichicon; TemperatureRange: -55C ~ 105C; Type: Polar; Ripple Current: 2.172A @ 120Hz; Impedance: 22 mOhm; Value: 2200uF; PartId: 26768; Supplier 1: Digi-Key; Supplier Part Number 1: 493-12264-3-ND; ComponentLink1Description: Datasheet; ComponentLink1URL: http://nichicon-us.com/english/products/pdfs/e-upw.pdf; ComponentLink2Description: Digi-Key Listing; ComponentLink2URL: https://www.digikey.com/product-detail/en/nichicon/UPW1E222MHD1TN/493-12264-3-ND/4321407; Tolerance: 20%; Voltage: 25V; Price: 0.614; Device Package: Radial, Can, 16mm
footprint CAP AL TH D16 L7.5 H27
pins: 1, 2

## UPW1E222MHD3
designator C?, comment 2200uF  (value not drawn)
CAP ALUM 2200UF 20% 25V RADIAL; Part Number: UPW1E222MHD3; Manufacturer: Nichicon; TemperatureRange: -55C ~ 105C; Type: Polar; Ripple Current: 2.134A @ 120Hz; Impedance: 22 mOhm; Value: 2200uF; PartId: 24300; Supplier 1: Digi-Key; Supplier Part Number 1: 493-1838-ND; ComponentLink1Description: Datasheet; ComponentLink1URL: http://nichicon-us.com/english/products/pdfs/e-upw.pdf; ComponentLink2Description: Digi-Key Listing; ComponentLink2URL: https://www.digikey.com/product-detail/en/nichicon/UPW1E222MHD3/493-1838-ND/589579; Tolerance: 20%; Voltage: 25V; Price: 1.2; Device Package: Radial, Can, 12.5mm
footprint CAP AL TH D12.5 L5 H35.5
pins: 1, 2

## UPW1E272MHD
designator C?, comment 2700uF  (value not drawn)
CAP ALUM 2700UF 20% 25V RADIAL; Part Number: UPW1E272MHD; Manufacturer: Nichicon; TemperatureRange: -55C ~ 105C; Type: Polar; Ripple Current: 2.172A @ 120Hz; Impedance: 22 mOhm; Value: 2700uF; PartId: 26620; Supplier 1: Digi-Key; Supplier Part Number 1: 493-1840-ND; ComponentLink1Description: Datasheet; ComponentLink1URL: http://nichicon-us.com/english/products/pdfs/e-upw.pdf; ComponentLink2Description: Digi-Key Listing; ComponentLink2URL: https://www.digikey.com/product-detail/en/nichicon/UPW1E272MHD/493-1840-ND/589581; Tolerance: 20%; Voltage: 25V; Price: 1.41; Device Package: Radial, Can, 16mm
footprint CAP AL TH D16 L7.5 H26.5
pins: 1, 2

## UPW1E272MHD1TN
designator C?, comment 2700uF  (value not drawn)
CAP ALUM 2700UF 20% 25V RADIAL; Part Number: UPW1E272MHD1TN; Manufacturer: Nichicon; TemperatureRange: -55C ~ 105C; Type: Polar; Ripple Current: 2.172A @ 120Hz; Impedance: 22 mOhm; Value: 2700uF; PartId: 26800; Supplier 1: Digi-Key; Supplier Part Number 1: 493-12320-3-ND; ComponentLink1Description: Datasheet; ComponentLink1URL: http://nichicon-us.com/english/products/pdfs/e-upw.pdf; ComponentLink2Description: Digi-Key Listing; ComponentLink2URL: https://www.digikey.com/product-detail/en/nichicon/UPW1E272MHD1TN/493-12320-3-ND/4321463; Tolerance: 20%; Voltage: 25V; Price: 0.7434; Device Package: Radial, Can, 16mm
footprint CAP AL TH D16 L7.5 H27
pins: 1, 2

## UPW1E331MPD1TD
designator C?, comment 330uF  (value not drawn)
CAP ALUM 330UF 20% 25V RADIAL; Part Number: UPW1E331MPD1TD; Manufacturer: Nichicon; TemperatureRange: -55C ~ 105C; Type: Polar; Ripple Current: 494mA @ 120Hz; Impedance: 90 mOhm; Value: 330uF; PartId: 24530; Supplier 1: Digi-Key; Supplier Part Number 1: 493-11722-3-ND; ComponentLink1Description: Datasheet; ComponentLink1URL: http://nichicon-us.com/english/products/pdfs/e-upw.pdf; ComponentLink2Description: Digi-Key Listing; ComponentLink2URL: https://www.digikey.com/product-detail/en/nichicon/UPW1E331MPD1TD/493-11722-3-ND/4320865; Tolerance: 20%; Voltage: 25V; Price: 0.144; Device Package: Radial, Can, 10mm
footprint CAP AL TH D10 L5 H14.5
pins: 1, 2

## UPW1E332MHD
designator C?, comment 3300uF  (value not drawn)
CAP ALUM 3300UF 20% 25V RADIAL; Part Number: UPW1E332MHD; Manufacturer: Nichicon; TemperatureRange: -55C ~ 105C; Type: Polar; Ripple Current: 2.559A @ 120Hz; Impedance: 18 mOhm; Value: 3300uF; PartId: 27093; Supplier 1: Digi-Key; Supplier Part Number 1: 493-1841-ND; ComponentLink1Description: Datasheet; ComponentLink1URL: http://nichicon-us.com/english/products/pdfs/e-upw.pdf; ComponentLink2Description: Digi-Key Listing; ComponentLink2URL: https://www.digikey.com/product-detail/en/nichicon/UPW1E332MHD/493-1841-ND/589582; Tolerance: 20%; Voltage: 25V; Price: 1.72; Device Package: Radial, Can, 16mm
footprint CAP AL TH D16 L7.5 H33.5
pins: 1, 2

## UPW1E392MHD
designator C?, comment 3900uF  (value not drawn)
CAP ALUM 3900UF 20% 25V RADIAL; Part Number: UPW1E392MHD; Manufacturer: Nichicon; TemperatureRange: -55C ~ 105C; Type: Polar; Ripple Current: 2.678A @ 120Hz; Impedance: 16 mOhm; Value: 3900uF; PartId: 27375; Supplier 1: Digi-Key; Supplier Part Number 1: 493-1843-ND; ComponentLink1Description: Datasheet; ComponentLink1URL: http://nichicon-us.com/english/products/pdfs/e-upw.pdf; ComponentLink2Description: Digi-Key Listing; ComponentLink2URL: https://www.digikey.com/product-detail/en/nichicon/UPW1E392MHD/493-1843-ND/589584; Tolerance: 20%; Voltage: 25V; Price: 1.81; Device Package: Radial, Can, 16mm
footprint CAP AL TH D16 L7.5 H37
pins: 1, 2

## UPW1E471MPD
designator C?, comment 470uF  (value not drawn)
CAP ALUM 470UF 20% 25V RADIAL; Part Number: UPW1E471MPD; Manufacturer: Nichicon; TemperatureRange: -55C ~ 105C; Type: Polar; Ripple Current: 788mA @ 120Hz; Impedance: 68 mOhm; Value: 470uF; PartId: 25146; Supplier 1: Digi-Key; Supplier Part Number 1: 493-1826-ND; ComponentLink1Description: Datasheet; ComponentLink1URL: http://nichicon-us.com/english/products/pdfs/e-upw.pdf; ComponentLink2Description: Digi-Key Listing; ComponentLink2URL: https://www.digikey.com/product-detail/en/nichicon/UPW1E471MPD/493-1826-ND/589567; Tolerance: 20%; Voltage: 25V; Price: 0.42; Device Package: Radial, Can, 10mm
footprint CAP AL TH D10 L5 H17.5
pins: 1, 2

## UPW1E561MPD
designator C?, comment 560uF  (value not drawn)
CAP ALUM 560UF 20% 25V RADIAL; Part Number: UPW1E561MPD; Manufacturer: Nichicon; TemperatureRange: -55C ~ 105C; Type: Polar; Ripple Current: 915mA @ 120Hz; Impedance: 52 mOhm; Value: 560uF; PartId: 25594; Supplier 1: Digi-Key; Supplier Part Number 1: 493-1828-ND; ComponentLink1Description: Datasheet; ComponentLink1URL: http://nichicon-us.com/english/products/pdfs/e-upw.pdf; ComponentLink2Description: Digi-Key Listing; ComponentLink2URL: https://www.digikey.com/product-detail/en/nichicon/UPW1E561MPD/493-1828-ND/589569; Tolerance: 20%; Voltage: 25V; Price: 0.68; Device Package: Radial, Can, 10mm
footprint CAP AL TH D10 L5 H22
pins: 1, 2

## UPW1E561MPD1TD
designator C?, comment 560uF  (value not drawn)
CAP ALUM 560UF 20% 25V RADIAL; Part Number: UPW1E561MPD1TD; Manufacturer: Nichicon; TemperatureRange: -55C ~ 105C; Type: Polar; Ripple Current: 915mA @ 120Hz; Impedance: 52 mOhm; Value: 560uF; PartId: 25773; Supplier 1: Digi-Key; Supplier Part Number 1: 493-11958-3-ND; ComponentLink1Description: Datasheet; ComponentLink1URL: http://nichicon-us.com/english/products/pdfs/e-upw.pdf; ComponentLink2Description: Digi-Key Listing; ComponentLink2URL: https://www.digikey.com/product-detail/en/nichicon/UPW1E561MPD1TD/493-11958-3-ND/4321101; Tolerance: 20%; Voltage: 25V; Price: 0.234; Device Package: Radial, Can, 10mm
footprint CAP AL TH D10 L5 H22
pins: 1, 2

## UPW1E681MPD
designator C?, comment 680uF  (value not drawn)
CAP ALUM 680UF 20% 25V RADIAL; Part Number: UPW1E681MPD; Manufacturer: Nichicon; TemperatureRange: -55C ~ 105C; Type: Polar; Ripple Current: 915mA @ 120Hz; Impedance: 52 mOhm; Value: 680uF; PartId: 25610; Supplier 1: Digi-Key; Supplier Part Number 1: 493-1829-ND; ComponentLink1Description: Datasheet; ComponentLink1URL: http://nichicon-us.com/english/products/pdfs/e-upw.pdf; ComponentLink2Description: Digi-Key Listing; ComponentLink2URL: https://www.digikey.com/product-detail/en/nichicon/UPW1E681MPD/493-1829-ND/589570; Tolerance: 20%; Voltage: 25V; Price: 0.7; Device Package: Radial, Can, 10mm
footprint CAP AL TH D10 L5 H22
pins: 1, 2

## UPW1E821MPD
designator C?, comment 820uF  (value not drawn)
CAP ALUM 820UF 20% 25V RADIAL; Part Number: UPW1E821MPD; Manufacturer: Nichicon; TemperatureRange: -55C ~ 105C; Type: Polar; Ripple Current: 1.08A @ 120Hz; Impedance: 45 mOhm; Value: 820uF; PartId: 26122; Supplier 1: Digi-Key; Supplier Part Number 1: 493-1830-ND; ComponentLink1Description: Datasheet; ComponentLink1URL: http://nichicon-us.com/english/products/pdfs/e-upw.pdf; ComponentLink2Description: Digi-Key Listing; ComponentLink2URL: https://www.digikey.com/product-detail/en/nichicon/UPW1E821MPD/493-1830-ND/589571; Tolerance: 20%; Voltage: 25V; Price: 0.78; Device Package: Radial, Can, 10mm
footprint CAP AL TH D10 L5 H30
pins: 1, 2

## UPW1H102MHD
designator C?, comment 1000uF  (value not drawn)
CAP ALUM 1000UF 20% 50V RADIAL; Part Number: UPW1H102MHD; Manufacturer: Nichicon; TemperatureRange: -55C ~ 105C; Type: Polar; Ripple Current: 1.676A @ 120Hz; Impedance: 34 mOhm; Value: 1000uF; PartId: 26589; Supplier 1: Digi-Key; Supplier Part Number 1: 493-1917-ND; ComponentLink1Description: Datasheet; ComponentLink1URL: http://nichicon-us.com/english/products/pdfs/e-upw.pdf; ComponentLink2Description: Digi-Key Listing; ComponentLink2URL: https://www.digikey.com/product-detail/en/nichicon/UPW1H102MHD/493-1917-ND/589658; Tolerance: 20%; Voltage: 50V; Price: 1.27; Device Package: Radial, Can, 16mm
footprint CAP AL TH D16 L7.5 H26.5
pins: 1, 2

## UPW1H102MHD1TN
designator C?, comment 1000uF  (value not drawn)
CAP ALUM 1000UF 20% 50V RADIAL; Part Number: UPW1H102MHD1TN; Manufacturer: Nichicon; TemperatureRange: -55C ~ 105C; Type: Polar; Ripple Current: 1.676A @ 120Hz; Impedance: 34 mOhm; Value: 1000uF; PartId: 26785; Supplier 1: Digi-Key; Supplier Part Number 1: 493-12285-3-ND; ComponentLink1Description: Datasheet; ComponentLink1URL: http://nichicon-us.com/english/products/pdfs/e-upw.pdf; ComponentLink2Description: Digi-Key Listing; ComponentLink2URL: https://www.digikey.com/product-detail/en/nichicon/UPW1H102MHD1TN/493-12285-3-ND/4321428; Tolerance: 20%; Voltage: 50V; Price: 0.6662; Device Package: Radial, Can, 16mm
footprint CAP AL TH D16 L7.5 H27
pins: 1, 2

## UPW1H121MPD6TD
designator C?, comment 120uF  (value not drawn)
CAP ALUM 120UF 20% 50V RADIAL; Part Number: UPW1H121MPD6TD; Manufacturer: Nichicon; TemperatureRange: -55C ~ 105C; Type: Polar; Ripple Current: 403mA @ 120Hz; Impedance: 162 mOhm; Value: 120uF; PartId: 24814; Supplier 1: Digi-Key; Supplier Part Number 1: 493-11765-1-ND; ComponentLink1Description: Datasheet; ComponentLink1URL: http://nichicon-us.com/english/products/pdfs/e-upw.pdf; ComponentLink2Description: Digi-Key Listing; ComponentLink2URL: https://www.digikey.com/product-detail/en/nichicon/UPW1H121MPD6TD/493-11765-1-ND/4319981; Tolerance: 20%; Voltage: 50V; Price: 0.45; Device Package: Radial, Can, 10mm
footprint CAP AL TH D10 L5 H14.5
pins: 1, 2

## UPW1H122MHD
designator C?, comment 1200uF  (value not drawn)
CAP ALUM 1200UF 20% 50V RADIAL; Part Number: UPW1H122MHD; Manufacturer: Nichicon; TemperatureRange: -55C ~ 105C; Type: Polar; Ripple Current: 2.295A @ 120Hz; Impedance: 28 mOhm; Value: 1200uF; PartId: 27059; Supplier 1: Digi-Key; Supplier Part Number 1: 493-1918-ND; ComponentLink1Description: Datasheet; ComponentLink1URL: http://nichicon-us.com/english/products/pdfs/e-upw.pdf; ComponentLink2Description: Digi-Key Listing; ComponentLink2URL: https://www.digikey.com/product-detail/en/nichicon/UPW1H122MHD/493-1918-ND/589659; Tolerance: 20%; Voltage: 50V; Price: 1.59; Device Package: Radial, Can, 16mm
footprint CAP AL TH D16 L7.5 H33.5
pins: 1, 2

## UPW1H151MPD1TD
designator C?, comment 150uF  (value not drawn)
CAP ALUM 150UF 20% 50V RADIAL; Part Number: UPW1H151MPD1TD; Manufacturer: Nichicon; TemperatureRange: -55C ~ 105C; Type: Polar; Ripple Current: 399.8mA @ 120Hz; Impedance: 162 mOhm; Value: 150uF; PartId: 24539; Supplier 1: Digi-Key; Supplier Part Number 1: 493-11778-3-ND; ComponentLink1Description: Datasheet; ComponentLink1URL: http://nichicon-us.com/english/products/pdfs/e-upw.pdf; ComponentLink2Description: Digi-Key Listing; ComponentLink2URL: https://www.digikey.com/product-detail/en/nichicon/UPW1H151MPD1TD/493-11778-3-ND/4320921; Tolerance: 20%; Voltage: 50V; Price: 0.1468; Device Package: Radial, Can, 10mm
footprint CAP AL TH D10 L5 H14.5
pins: 1, 2

## UPW1H152MHD
designator C?, comment 1500uF  (value not drawn)
CAP ALUM 1500UF 20% 50V RADIAL; Part Number: UPW1H152MHD; Manufacturer: Nichicon; TemperatureRange: -55C ~ 105C; Type: Polar; Ripple Current: 2.295A @ 120Hz; Impedance: 28 mOhm; Value: 1500uF; PartId: 27127; Supplier 1: Digi-Key; Supplier Part Number 1: 493-1920-ND; ComponentLink1Description: Datasheet; ComponentLink1URL: http://nichicon-us.com/english/products/pdfs/e-upw.pdf; ComponentLink2Description: Digi-Key Listing; ComponentLink2URL: https://www.digikey.com/product-detail/en/nichicon/UPW1H152MHD/493-1920-ND/589661; Tolerance: 20%; Voltage: 50V; Price: 1.77; Device Package: Radial, Can, 16mm
footprint CAP AL TH D16 L7.5 H33.5
pins: 1, 2

## UPW1H152MHD6
designator C?, comment 1500uF  (value not drawn)
CAP ALUM 1500UF 20% 50V RADIAL; Part Number: UPW1H152MHD6; Manufacturer: Nichicon; TemperatureRange: -55C ~ 105C; Type: Polar; Ripple Current: 2.372A @ 120Hz; Impedance: 25 mOhm; Value: 1500uF; PartId: 27349; Supplier 1: Digi-Key; Supplier Part Number 1: 493-1921-ND; ComponentLink1Description: Datasheet; ComponentLink1URL: http://nichicon-us.com/english/products/pdfs/e-upw.pdf; ComponentLink2Description: Digi-Key Listing; ComponentLink2URL: https://www.digikey.com/product-detail/en/nichicon/UPW1H152MHD6/493-1921-ND/589662; Tolerance: 20%; Voltage: 50V; Price: 1.72; Device Package: Radial, Can, 16mm
footprint CAP AL TH D16 L7.5 H37
pins: 1, 2

## UPW1H181MPD6
designator C?, comment 180uF  (value not drawn)
CAP ALUM 180UF 20% 50V RADIAL; Part Number: UPW1H181MPD6; Manufacturer: Nichicon; TemperatureRange: -55C ~ 105C; Type: Polar; Ripple Current: 552.5mA @ 120Hz; Impedance: 119 mOhm; Value: 180uF; PartId: 25178; Supplier 1: Digi-Key; Supplier Part Number 1: 493-1904-ND; ComponentLink1Description: Datasheet; ComponentLink1URL: http://nichicon-us.com/english/products/pdfs/e-upw.pdf; ComponentLink2Description: Digi-Key Listing; ComponentLink2URL: https://www.digikey.com/product-detail/en/nichicon/UPW1H181MPD6/493-1904-ND/589645; Tolerance: 20%; Voltage: 50V; Price: 0.46; Device Package: Radial, Can, 10mm
footprint CAP AL TH D10 L5 H17.5
pins: 1, 2

## UPW1H221MPD
designator C?, comment 220uF  (value not drawn)
CAP ALUM 220UF 20% 50V RADIAL; Part Number: UPW1H221MPD; Manufacturer: Nichicon; TemperatureRange: -55C ~ 105C; Type: Polar; Ripple Current: 552.5mA @ 120Hz; Impedance: 119 mOhm; Value: 220uF; PartId: 25198; Supplier 1: Digi-Key; Supplier Part Number 1: 493-1905-ND; ComponentLink1Description: Datasheet; ComponentLink1URL: http://nichicon-us.com/english/products/pdfs/e-upw.pdf; ComponentLink2Description: Digi-Key Listing; ComponentLink2URL: https://www.digikey.com/product-detail/en/nichicon/UPW1H221MPD/493-1905-ND/589646; Tolerance: 20%; Voltage: 50V; Price: 0.5; Device Package: Radial, Can, 10mm
footprint CAP AL TH D10 L5 H17.5
pins: 1, 2

## UPW1H221MPD1TD
designator C?, comment 220uF  (value not drawn)
CAP ALUM 220UF 20% 50V RADIAL; Part Number: UPW1H221MPD1TD; Manufacturer: Nichicon; TemperatureRange: -55C ~ 105C; Type: Polar; Ripple Current: 552.5mA @ 120Hz; Impedance: 119 mOhm; Value: 220uF; PartId: 25027; Supplier 1: Digi-Key; Supplier Part Number 1: 493-11870-3-ND; ComponentLink1Description: Datasheet; ComponentLink1URL: http://nichicon-us.com/english/products/pdfs/e-upw.pdf; ComponentLink2Description: Digi-Key Listing; ComponentLink2URL: https://www.digikey.com/product-detail/en/nichicon/UPW1H221MPD1TD/493-11870-3-ND/4321013; Tolerance: 20%; Voltage: 50V; Price: 0.1732; Device Package: Radial, Can, 10mm
footprint CAP AL TH D10 L5 H17.5
pins: 1, 2

## UPW1H221MPD6
designator C?, comment 220uF  (value not drawn)
CAP ALUM 220UF 20% 50V RADIAL; Part Number: UPW1H221MPD6; Manufacturer: Nichicon; TemperatureRange: -55C ~ 105C; Type: Polar; Ripple Current: 670mA @ 120Hz; Impedance: 90 mOhm; Value: 220uF; PartId: 25558; Supplier 1: Digi-Key; Supplier Part Number 1: 493-1906-ND; ComponentLink1Description: Datasheet; ComponentLink1URL: http://nichicon-us.com/english/products/pdfs/e-upw.pdf; ComponentLink2Description: Digi-Key Listing; ComponentLink2URL: https://www.digikey.com/product-detail/en/nichicon/UPW1H221MPD6/493-1906-ND/589647; Tolerance: 20%; Voltage: 50V; Price: 0.65; Device Package: Radial, Can, 10mm
footprint CAP AL TH D10 L5 H22
pins: 1, 2

## UPW1H221MPD6TD
designator C?, comment 220uF  (value not drawn)
CAP ALUM 220UF 20% 50V RADIAL; Part Number: UPW1H221MPD6TD; Manufacturer: Nichicon; TemperatureRange: -55C ~ 105C; Type: Polar; Ripple Current: 670mA @ 120Hz; Impedance: 90 mOhm; Value: 220uF; PartId: 25766; Supplier 1: Digi-Key; Supplier Part Number 1: 493-11950-3-ND; ComponentLink1Description: Datasheet; ComponentLink1URL: http://nichicon-us.com/english/products/pdfs/e-upw.pdf; ComponentLink2Description: Digi-Key Listing; ComponentLink2URL: https://www.digikey.com/product-detail/en/nichicon/UPW1H221MPD6TD/493-11950-3-ND/4321093; Tolerance: 20%; Voltage: 50V; Price: 0.223; Device Package: Radial, Can, 10mm
footprint CAP AL TH D10 L5 H22
pins: 1, 2

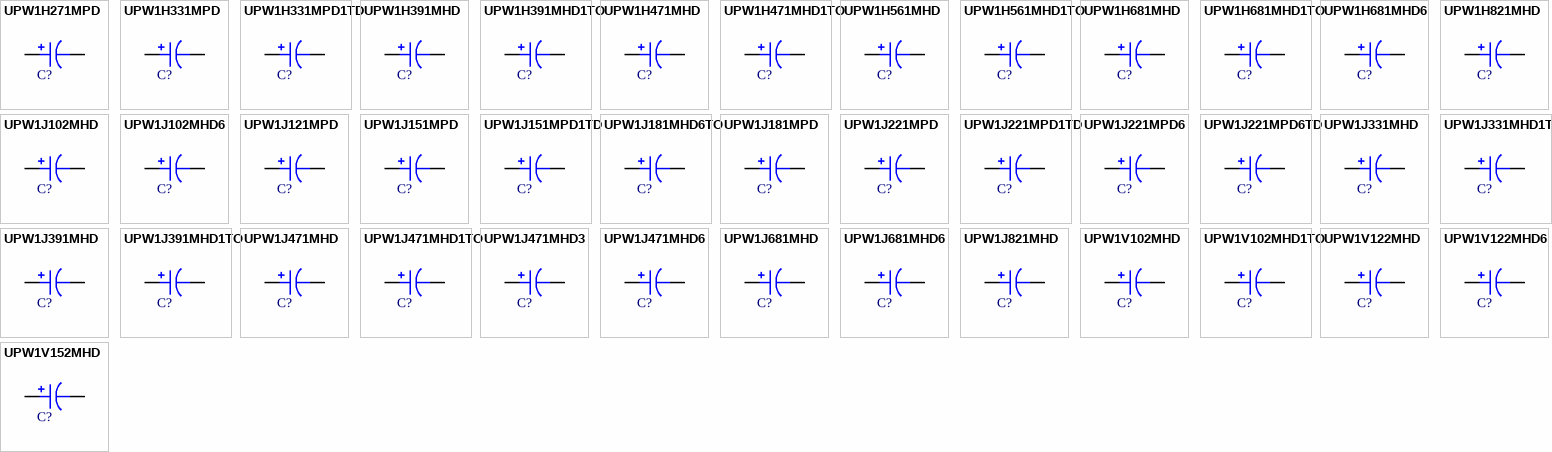
[diagram p96: symbols UPW1H271MPD to UPW1V152MHD]

## UPW1H271MPD
designator C?, comment 270uF  (value not drawn)
CAP ALUM 270UF 20% 50V RADIAL; Part Number: UPW1H271MPD; Manufacturer: Nichicon; TemperatureRange: -55C ~ 105C; Type: Polar; Ripple Current: 780mA @ 120Hz; Impedance: 82 mOhm; Value: 270uF; PartId: 26054; Supplier 1: Digi-Key; Supplier Part Number 1: 493-1907-ND; ComponentLink1Description: Datasheet; ComponentLink1URL: http://nichicon-us.com/english/products/pdfs/e-upw.pdf; ComponentLink2Description: Digi-Key Listing; ComponentLink2URL: https://www.digikey.com/product-detail/en/nichicon/UPW1H271MPD/493-1907-ND/589648; Tolerance: 20%; Voltage: 50V; Price: 0.64; Device Package: Radial, Can, 10mm
footprint CAP AL TH D10 L5 H30
pins: 1, 2

## UPW1H331MPD
designator C?, comment 330uF  (value not drawn)
CAP ALUM 330UF 20% 50V RADIAL; Part Number: UPW1H331MPD; Manufacturer: Nichicon; TemperatureRange: -55C ~ 105C; Type: Polar; Ripple Current: 670mA @ 120Hz; Impedance: 90 mOhm; Value: 330uF; PartId: 25623; Supplier 1: Digi-Key; Supplier Part Number 1: 493-1908-ND; ComponentLink1Description: Datasheet; ComponentLink1URL: http://nichicon-us.com/english/products/pdfs/e-upw.pdf; ComponentLink2Description: Digi-Key Listing; ComponentLink2URL: https://www.digikey.com/product-detail/en/nichicon/UPW1H331MPD/493-1908-ND/589649; Tolerance: 20%; Voltage: 50V; Price: 0.71; Device Package: Radial, Can, 10mm
footprint CAP AL TH D10 L5 H22
pins: 1, 2

## UPW1H331MPD1TD
designator C?, comment 330uF  (value not drawn)
CAP ALUM 330UF 20% 50V RADIAL; Part Number: UPW1H331MPD1TD; Manufacturer: Nichicon; TemperatureRange: -55C ~ 105C; Type: Polar; Ripple Current: 670mA @ 120Hz; Impedance: 90 mOhm; Value: 330uF; PartId: 25778; Supplier 1: Digi-Key; Supplier Part Number 1: 493-11970-3-ND; ComponentLink1Description: Datasheet; ComponentLink1URL: http://nichicon-us.com/english/products/pdfs/e-upw.pdf; ComponentLink2Description: Digi-Key Listing; ComponentLink2URL: https://www.digikey.com/product-detail/en/nichicon/UPW1H331MPD1TD/493-11970-3-ND/4321113; Tolerance: 20%; Voltage: 50V; Price: 0.245; Device Package: Radial, Can, 10mm
footprint CAP AL TH D10 L5 H22
pins: 1, 2

## UPW1H391MHD
designator C?, comment 390uF  (value not drawn)
CAP ALUM 390UF 20% 50V RADIAL; Part Number: UPW1H391MHD; Manufacturer: Nichicon; TemperatureRange: -55C ~ 105C; Type: Polar; Ripple Current: 1.11A @ 120Hz; Impedance: 63 mOhm; Value: 390uF; PartId: 22869; Supplier 1: Digi-Key; Supplier Part Number 1: 493-1910-ND; ComponentLink1Description: Datasheet; ComponentLink1URL: http://nichicon-us.com/english/products/pdfs/e-upw.pdf; ComponentLink2Description: Digi-Key Listing; ComponentLink2URL: https://www.digikey.com/product-detail/en/nichicon/UPW1H391MHD/493-1910-ND/589651; Tolerance: 20%; Voltage: 50V; Price: 0; Device Package: Radial, Can, 12.5mm
footprint CAP AL TH D12.5 L5 H20
pins: 1, 2

## UPW1H391MHD1TO
designator C?, comment 390uF  (value not drawn)
CAP ALUM 390UF 20% 50V RADIAL; Part Number: UPW1H391MHD1TO; Manufacturer: Nichicon; TemperatureRange: -55C ~ 105C; Type: Polar; Ripple Current: 1.11A @ 120Hz; Impedance: 63 mOhm; Value: 390uF; PartId: 23324; Supplier 1: Digi-Key; Supplier Part Number 1: 493-12020-1-ND; ComponentLink1Description: Datasheet; ComponentLink1URL: http://nichicon-us.com/english/products/pdfs/e-upw.pdf; ComponentLink2Description: Digi-Key Listing; ComponentLink2URL: https://www.digikey.com/product-detail/en/nichicon/UPW1H391MHD1TO/493-12020-1-ND/4319995; Tolerance: 20%; Voltage: 50V; Price: 0.82; Device Package: Radial, Can, 12.5mm
footprint CAP AL TH D12.5 L5 H22
pins: 1, 2

## UPW1H471MHD
designator C?, comment 470uF  (value not drawn)
CAP ALUM 470UF 20% 50V RADIAL; Part Number: UPW1H471MHD; Manufacturer: Nichicon; TemperatureRange: -55C ~ 105C; Type: Polar; Ripple Current: 1.125A @ 120Hz; Impedance: 60 mOhm; Value: 470uF; PartId: 22873; Supplier 1: Digi-Key; Supplier Part Number 1: 493-1911-ND; ComponentLink1Description: Datasheet; ComponentLink1URL: http://nichicon-us.com/english/products/pdfs/e-upw.pdf; ComponentLink2Description: Digi-Key Listing; ComponentLink2URL: https://www.digikey.com/product-detail/en/nichicon/UPW1H471MHD/493-1911-ND/589652; Tolerance: 20%; Voltage: 50V; Price: 0; Device Package: Radial, Can, 12.5mm
footprint CAP AL TH D12.5 L5 H20
pins: 1, 2

## UPW1H471MHD1TO
designator C?, comment 470uF  (value not drawn)
CAP ALUM 470UF 20% 50V RADIAL; Part Number: UPW1H471MHD1TO; Manufacturer: Nichicon; TemperatureRange: -55C ~ 105C; Type: Polar; Ripple Current: 1.125A @ 120Hz; Impedance: 60 mOhm; Value: 470uF; PartId: 23153; Supplier 1: Digi-Key; Supplier Part Number 1: 493-12030-3-ND; ComponentLink1Description: Datasheet; ComponentLink1URL: http://nichicon-us.com/english/products/pdfs/e-upw.pdf; ComponentLink2Description: Digi-Key Listing; ComponentLink2URL: https://www.digikey.com/product-detail/en/nichicon/UPW1H471MHD1TO/493-12030-3-ND/4321173; Tolerance: 20%; Voltage: 50V; Price: 0.3002; Device Package: Radial, Can, 12.5mm
footprint CAP AL TH D12.5 L5 H22
pins: 1, 2